# Altium schematic symbol library SCHLIB_Autobot.SchLib: 7 symbols
Pins are listed as number, name and electrical type; pins without a type are passive.

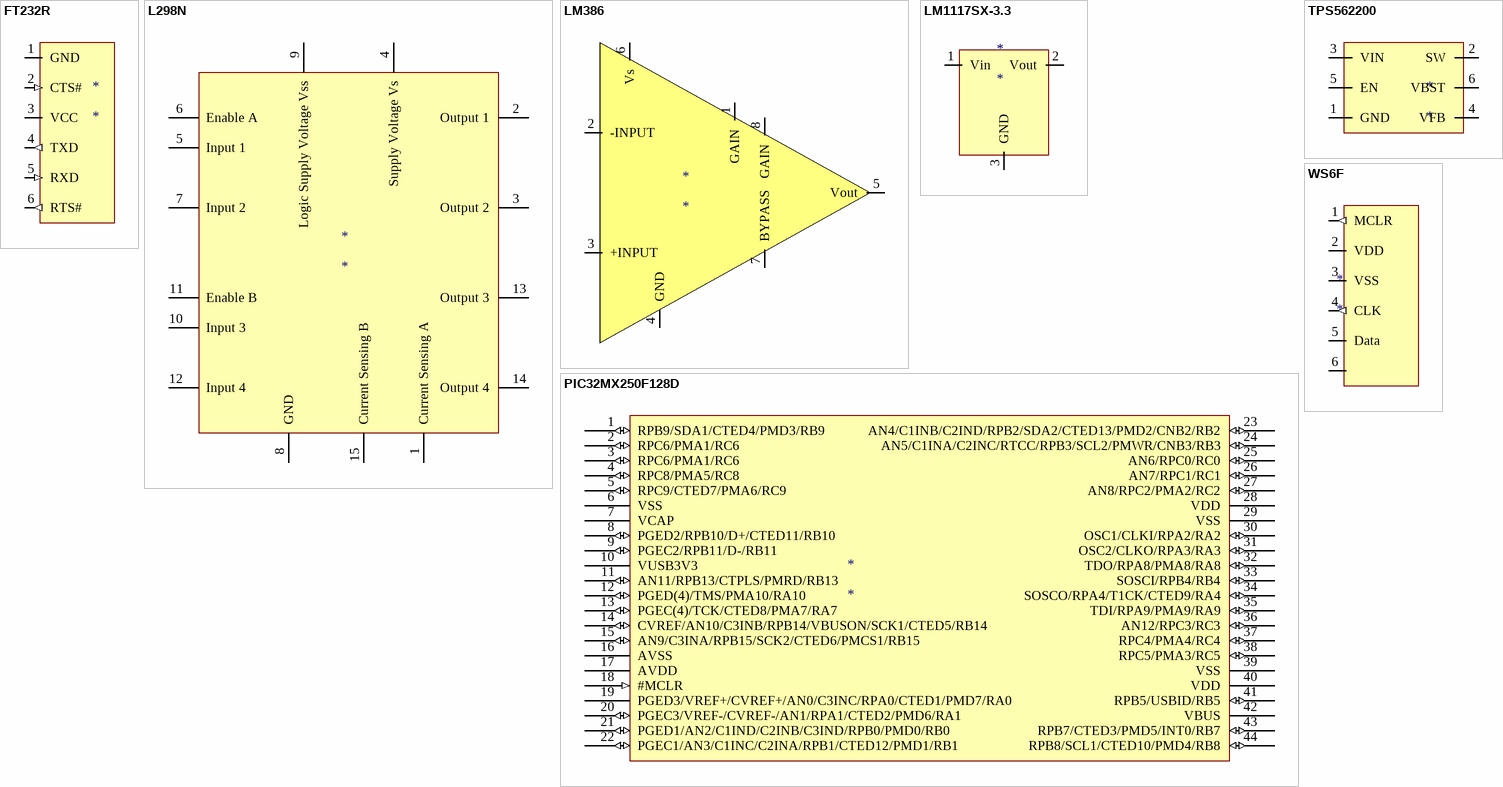
[diagram p0: symbols FT232R to WS6F]

## FT232R
designator *
footprint 6-pin Connector
pins: 1 GND, 2 CTS# (in), 3 VCC (power), 4 TXD (out), 5 RXD (in), 6 RTS# (out)

## L298N
designator *
footprint L298N (Motor Controller - Multiwatt15 V)
pins: 1 Current Sensing A, 2 Output 1, 3 Output 2, 4 Supply Voltage Vs, 5 Input 1, 6 Enable A, 7 Input 2, 8 GND, 9 Logic Supply Voltage Vss, 10 Input 3, 11 Enable B, 12 Input 4, 13 Output 3, 14 Output 4, 15 Current Sensing B

## LM386
designator *
footprint Ampli
pins: 1 GAIN, 2 -INPUT, 3 +INPUT, 4 GND, 5 Vout, 6 Vs, 7 BYPASS, 8 GAIN

## LM1117SX-3.3
designator *
footprint TO-263-3
pins: 1 Vin, 2 Vout, 3 GND

## PIC32MX250F128D
designator *
footprint 44TQFP (PIC)
pins: 1 RPB9/SDA1/CTED4/PMD3/RB9 (io), 2 RPC6/PMA1/RC6 (io), 3 RPC6/PMA1/RC6 (io), 4 RPC8/PMA5/RC8 (io), 5 RPC9/CTED7/PMA6/RC9 (io), 6 VSS, 7 VCAP (power), 8 PGED2/RPB10/D+/CTED11/RB10 (io), 9 PGEC2/RPB11/D-/RB11 (io), 10 VUSB3V3, 11 AN11/RPB13/CTPLS/PMRD/RB13 (io), 12 PGED(4)/TMS/PMA10/RA10 (io), 13 PGEC(4)/TCK/CTED8/PMA7/RA7 (io), 14 CVREF/AN10/C3INB/RPB14/VBUSON/SCK1/CTED5/RB14 (io), 15 AN9/C3INA/RPB15/SCK2/CTED6/PMCS1/RB15 (io), 16 AVSS, 17 AVDD (power), 18 #MCLR (in), 19 PGED3/VREF+/CVREF+/AN0/C3INC/RPA0/CTED1/PMD7/RA0 (power), 20 PGEC3/VREF-/CVREF-/AN1/RPA1/CTED2/PMD6/RA1 (io), 21 PGED1/AN2/C1IND/C2INB/C3IND/RPB0/PMD0/RB0 (io), 22 PGEC1/AN3/C1INC/C2INA/RPB1/CTED12/PMD1/RB1 (io), 23 AN4/C1INB/C2IND/RPB2/SDA2/CTED13/PMD2/CNB2/RB2 (io), 24 AN5/C1INA/C2INC/RTCC/RPB3/SCL2/PMWR/CNB3/RB3 (io), 25 AN6/RPC0/RC0 (io), 26  AN7/RPC1/RC1 (io), 27 AN8/RPC2/PMA2/RC2 (io), 28  VDD (power), 29 VSS, 30 OSC1/CLKI/RPA2/RA2 (io), 31 OSC2/CLKO/RPA3/RA3 (io), 32 TDO/RPA8/PMA8/RA8 (io), 33 SOSCI/RPB4/RB4 (io), 34 SOSCO/RPA4/T1CK/CTED9/RA4 (io), 35 TDI/RPA9/PMA9/RA9 (io), 36 AN12/RPC3/RC3 (io), 37 RPC4/PMA4/RC4 (io), 38 RPC5/PMA3/RC5 (io), 39 VSS, 40 VDD (power), 41 RPB5/USBID/RB5 (io), 42 VBUS, 43 RPB7/CTED3/PMD5/INT0/RB7 (io), 44 RPB8/SCL1/CTED10/PMD4/RB8 (io)

## TPS562200
designator *
footprint VReg (V Regulator)
pins: 1 GND, 2 SW, 3 VIN, 4 VFB, 5 EN, 6 VBST

## WS6F
designator *
footprint 6-pin Connector
pins: 1 MCLR (out), 2 VDD (power), 3 VSS, 4 CLK (out), 5 Data (io), 6